# Altium footprint library AD.PcbLib: 1 footprints
Each footprint in its own frame and in the unit in brackets; x right, y up, seen from the top. Pads: shape width x height; smd on the part's side, far side on the other; paste and mask are expansions set on the pad; w line width, h text height; cw(c..) or ccw(c..) is an arc to the next point about the centre after c.
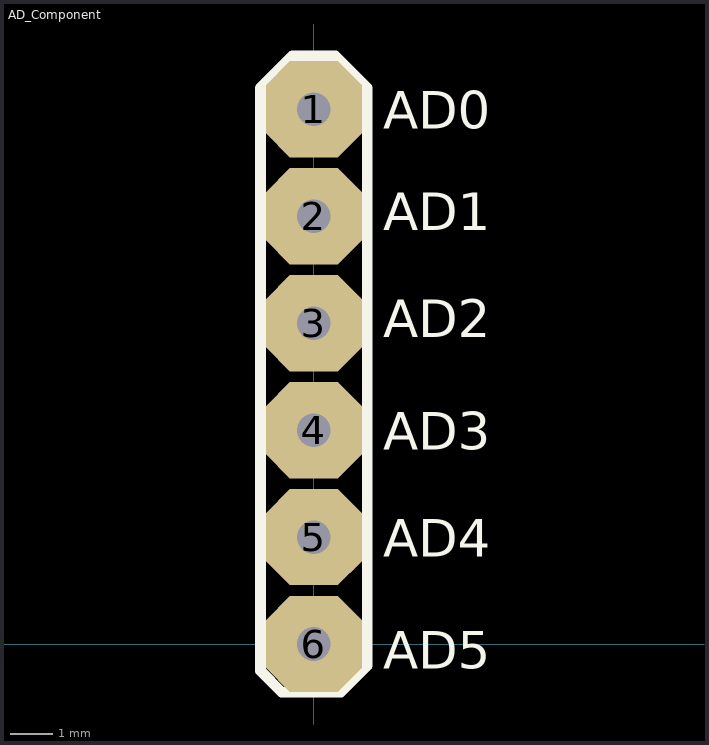
[diagram p0: the footprint, top view; thin cyan lines are the x and y axes]

## AD_Component [mil]
pads (6):
  oct 90x90 hole 31.5: 1(0,500) 2(0,400) 3(0,300) 4(0,200) 5(0,100) 6(0,0)
Top Overlay:
  lines w10: -50,-25 -30,-45 25,-45 50,-20 50,520 20,550 -20,550 -50,520 -50,-15 -50,-25
  text "AD5" at 65,-35 h60
  text "AD4" at 65,70 h60
  text "AD3" at 65,170 h60
  text "AD2" at 65,275 h60
  text "AD1" at 65,375 h60
  text "AD0" at 65,470 h60